# Altium schematic symbol library custom.SchLib: 20 symbols
Pins are listed as number, name and electrical type; pins without a type are passive.

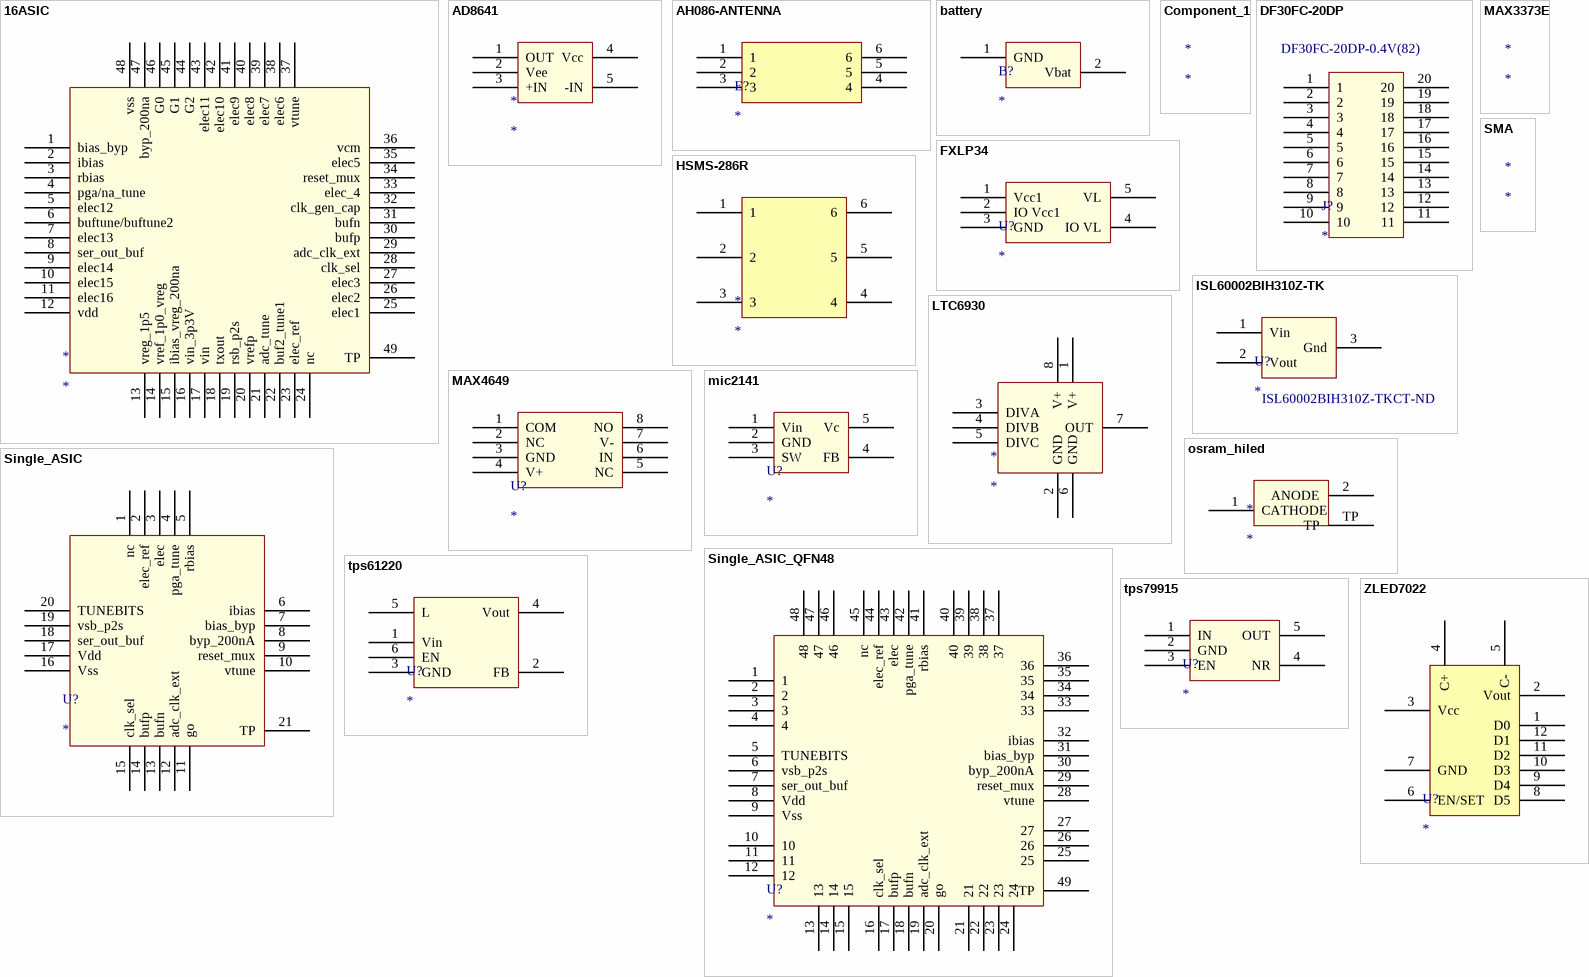
[diagram p0: symbols 16ASIC to ZLED7022]

## 16ASIC
designator *
pins: 1 bias_byp, 2 ibias, 3 rbias, 4 pga/na_tune, 5 elec12, 6 buftune/buftune2, 7 elec13, 8 ser_out_buf, 9 elec14, 10 elec15, 11 elec16, 12 vdd, 13 vreg_1p5, 14 vref_1p0_vreg, 15 ibias_vreg_200na, 16 vin_3p3V, 17 vin, 18 txout, 19 rsb_p2s, 20 vrefp, 21 adc_tune, 22 buf2_tune1, 23 elec_ref, 24 nc, 25 elec1, 26 elec2, 27 elec3, 28 clk_sel, 29 adc_clk_ext, 30 bufp, 31 bufn, 32 clk_gen_cap, 33 elec_4, 34 reset_mux, 35 elec5, 36 vcm, 37 vtune, 38 elec6, 39 elec7, 40 elec8, 41 elec9, 42 elec10, 43 elec11, 44 G2, 45 G1, 46 G0, 47 byp_200na, 48 vss, 49 TP

## AD8641
designator *
footprint SOT353-5N (SOT353, 5-Leads, Body 2x1.3mm, Pitch 0.65mm, Lead Span 2.1mm, IPC Medium Density)
pins: 1 OUT, 2 Vee, 3 +IN, 4 Vcc, 5 -IN

## AH086-ANTENNA
designator E?
footprint AH086M
pins: 1, 2, 3, 4, 5, 6

## battery
designator B?
footprint Batt500
pins: 1 GND, 2 Vbat

## Component_1
designator *

## DF30FC-20DP
designator J?  Manufacturer Part Number: DF30FC-20DP-0.4V(82)
Manufacturer: Hirose Electric Co Ltd; Description: CONN PLUG 20POS 0.4MM SMD GOLD; Connector Type: Header, Center Strip Contacts; Number of Positions: 20; Pitch: 0.016" (0.40mm); Mated Stacking Heights: 0.9mm; Supplier 1: Digi-Key; RoHS: RoHS Compliant; Category: Connectors, Interconnects; Stock 1: 11216; Pricing 1: 1=1.75, 10=1.426, 25=1.2652, 100=1.035, 250=0.874 (USD); Number of Rows: 2; Mounting Type: Surface Mount; Features: -; Contact Finish: Gold; Contact Finish Thickness: -; Packaging: Cut Tape (CT); Height Above Board: 0.031" (0.80mm); ComponentLink1URL: http://www.hirose.co.jp/cataloge_hp/e68410340.pdf; ComponentLink1Description: http://www.hirose.co.jp/cataloge_hp/e68410340.pdf; Supplier Part Number 1: H3864CT-ND
footprint DF30FC-20DP
pins: 1, 2, 3, 4, 5, 6, 7, 8, 9, 10, 11, 12, 13, 14, 15, 16, 17, 18, 19, 20

## FXLP34
designator U?
footprint SOT353-5AN (SOT353, 5-Leads, Body 2x1.3mm, Pitch 0.65mm, Lead Span 2.1mm, IPC Medium Density)
pins: 1 Vcc1, 2 IO Vcc1, 3 GND, 4 IO VL, 5 VL

## HSMS-286R
designator *
footprint SOT363-6M
pins: 1, 2, 3, 4, 5, 6

## ISL60002BIH310Z-TK
designator U?  Supplier Part Number 1: ISL60002BIH310Z-TKCT-ND
IC VOLT REF FGA LV 1.024V SOT-23; Manufacturer: Intersil; Manufacturer Part Number: ISL60002BIH310Z-TK; Reference Type: Series, Precision; Tolerance: ±1mV; Temperature Coefficient: 20ppm/°C; Voltage - Input: 2.7 V ~ 5.5 V; Number of Channels: 1; Current - Quiescent: 900nA; Current - Output: 7mA; Supplier 1: Digi-Key; RoHS: RoHS Compliant; Category: Integrated Circuits (ICs); Stock 1: 3269; Pricing 1: 1=5.99, 25=4.86, 100=4.13 (USD); Voltage - Output: 1.024V; Current - Cathode: -; Operating Temperature: -40°C ~ 85°C; Mounting Type: Surface Mount; Package / Case: TO-236-3, SC-59, SOT-23-3; Supplier Device Package: SOT-23-3; Packaging: Cut Tape (CT); ComponentLink1URL: http://www.intersil.com/data/fn/fn8082.pdf; ComponentLink1Description: http://www.intersil.com/data/fn/fn8082.pdf
footprint SOT23-3N (SOT23, 3-Leads, Body 2.9x1.3mm, Pitch 0.95mm, Lead Span 2.5mm, IPC Medium Density)
footprint SOT23-3L (SOT23, 3-Leads, Body 2.9x1.3mm, Pitch 0.95mm, Lead Span 2.5mm, IPC High Density)
footprint SOT23-3M (SOT23, 3-Leads, Body 2.9x1.3mm, Pitch 0.95mm, Lead Span 2.5mm, IPC Low Density)
pins: 1 Vin, 2 Vout, 3 Gnd

## LTC6930
designator *
footprint TSOP65P490-8AL (TSOP, 8-Leads, Body 3x3mm, Pitch 0.65mm, IPC High Density)
pins: 1 V+, 2 GND, 3 DIVA, 4 DIVB, 5 DIVC, 6 GND, 7 OUT, 8 V+

## MAX3373E
designator *

## MAX4649
designator U?
footprint SOT23-8
pins: 1 COM, 2 NC, 3 GND, 4 V+, 5 NC, 6 IN, 7 V-, 8 NO

## mic2141
designator U?
footprint SOT23-5AL (SOT23, 5-Leads, Body 2.9x1.6mm, Pitch 0.95mm, Lead Span 2.8mm, IPC High Density)
pins: 1 Vin, 2 GND, 3 SW, 4 FB, 5 Vc

## osram_hiled
designator *
footprint OSRAM LED
footprint LUXEON LED (Luxeon LED)
pins: 1 CATHODE, 2 ANODE, TP

## Single_ASIC
designator U?
footprint Single_ASIC
pins: 1 nc, 2 elec_ref, 3 elec, 4 pga_tune, 5 rbias, 6 ibias, 7 bias_byp, 8 byp_200nA, 9 reset_mux, 10 vtune, 11 go, 12 adc_clk_ext, 13 bufn, 14 bufp, 15 clk_sel, 16 Vss, 17 Vdd, 18 ser_out_buf, 19 vsb_p2s, 20 TUNEBITS, 21 TP

## Single_ASIC_QFN48
designator U?
footprint Single_ASIC
footprint Quad48
pins: 1, 2, 3, 4, 5 TUNEBITS, 6 vsb_p2s, 7 ser_out_buf, 8 Vdd, 9 Vss, 10, 11, 12, 13, 14, 15, 16 clk_sel, 17 bufp, 18 bufn, 19 adc_clk_ext, 20 go, 21, 22, 23, 24, 25, 26, 27, 28 vtune, 29 reset_mux, 30 byp_200nA, 31 bias_byp, 32 ibias, 33, 34, 35, 36, 37, 38, 39, 40, 41 rbias, 42 pga_tune, 43 elec, 44 elec_ref, 45 nc, 46, 47, 48, 49 TP

## SMA
designator *

## tps61220
designator U?
footprint SOT353-5N (SOT353, 5-Leads, Body 2x1.3mm, Pitch 0.65mm, Lead Span 2.1mm, IPC Medium Density)
pins: 1 Vin, 2 FB, 3 GND, 4 Vout, 5 L, 6 EN

## tps79915
designator U?
footprint SOT23-5AN (SOT23, 5-Leads, Body 2.9x1.6mm, Pitch 0.95mm, Lead Span 2.8mm, IPC Medium Density)
pins: 1 IN, 2 GND, 3 EN, 4 NR, 5 OUT

## ZLED7022
designator U?
ZLED 7022
pins: 1 D0, 2 Vout, 3 Vcc, 4 C+, 5 C-, 6 EN/SET, 7 GND, 8 D5, 9 D4, 10 D3, 11 D2, 12 D1